# Altium footprint library PTN Connectors Footprint.PcbLib: 13 footprints
Each footprint in its own frame and in the unit in brackets; x right, y up, seen from the top. Pads: shape width x height; smd on the part's side, far side on the other; paste and mask are expansions set on the pad; w line width, h text height; cw(c..) or ccw(c..) is an arc to the next point about the centre after c.
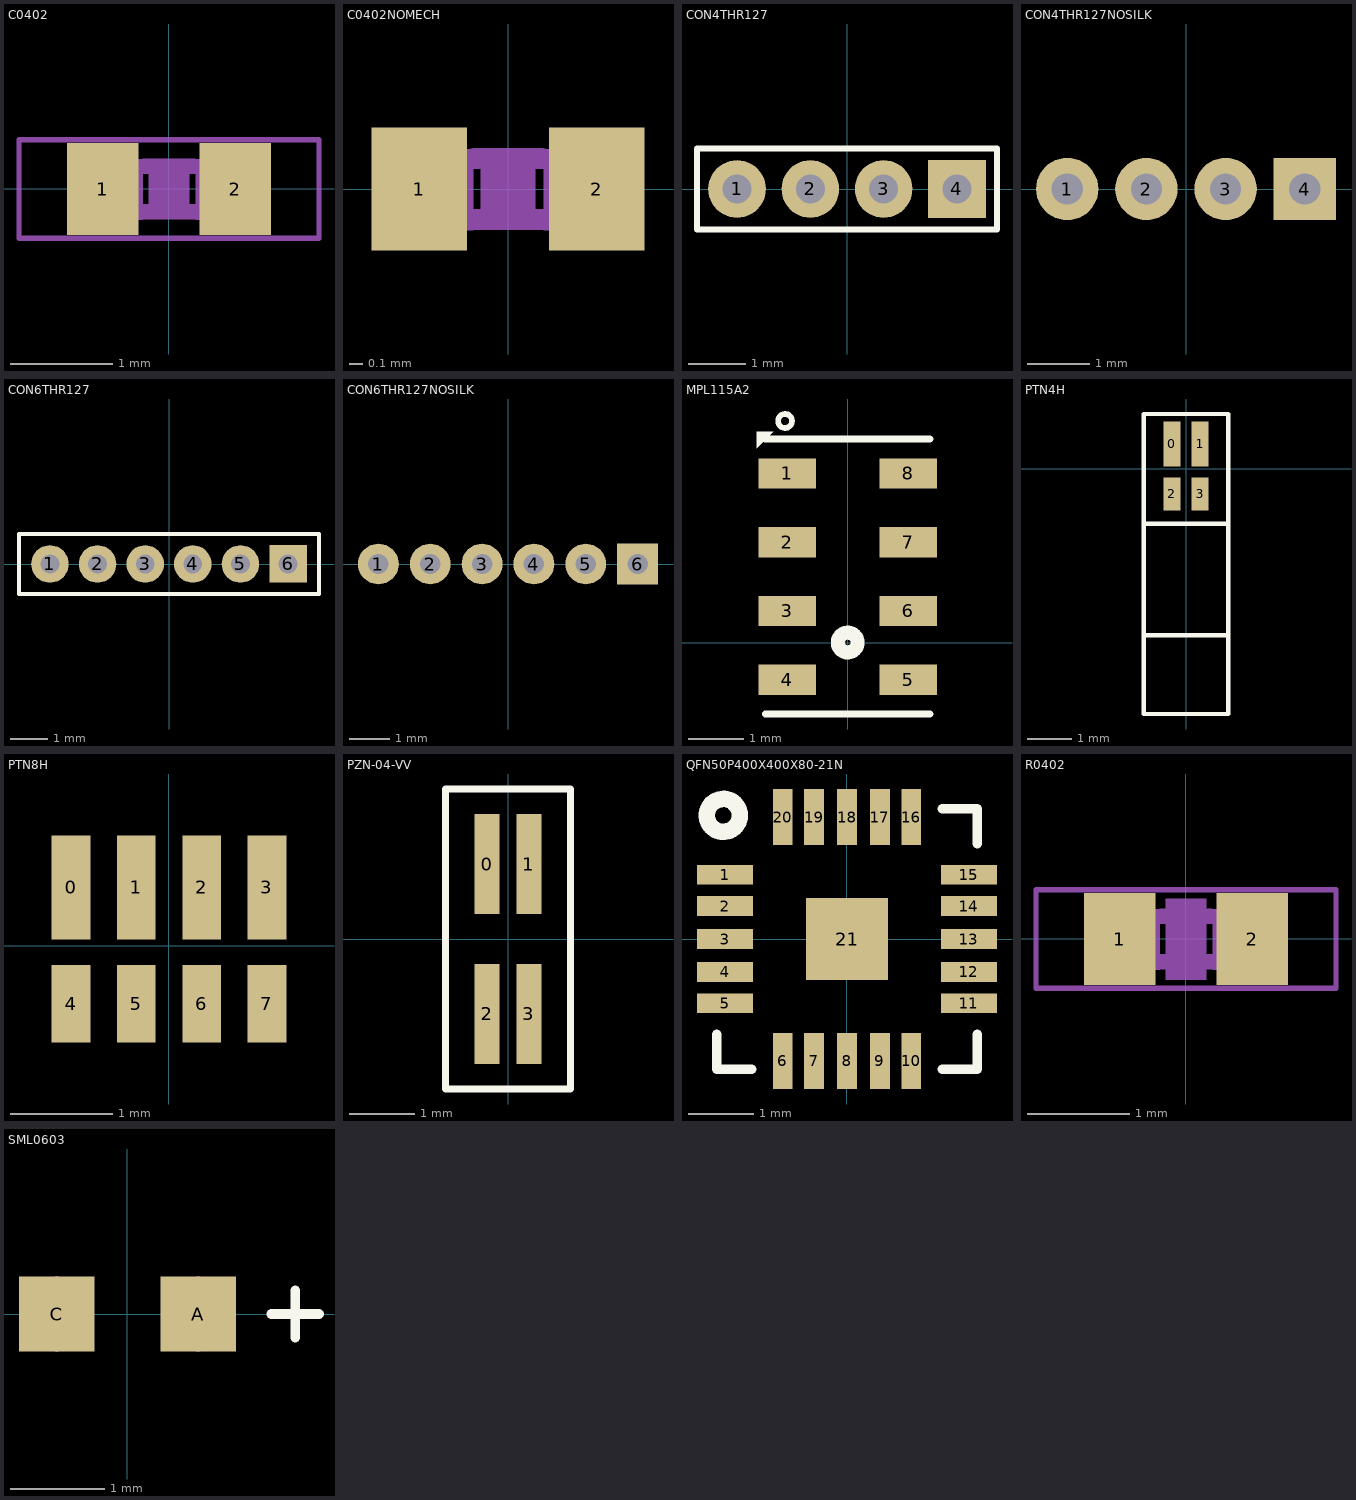
[diagram p0: the footprints below, top view; thin cyan lines are the x and y axes]

## C0402 [mm]
pads (2):
  rect 0.7x0.9 smd: 1(-0.65,0) 2(0.65,0)
Mechanical 6:
  rectangle: -0.2,-0.3 0.2,0.3
Mechanical 16:
  rectangle: 0.259,-0.305 0.559,0.295
  rectangle: -0.554,-0.305 -0.254,0.295
  lines w0.051: -1.473,-0.483 -1.473,0.483 1.473,0.483 1.473,-0.483 -1.473,-0.483
  lines w0.152: -0.245,-0.224 0.245,-0.224 ; -0.245,0.224 0.245,0.224

## C0402NOMECH [mm]
pads (2):
  rect 0.7x0.9 smd: 1(-0.65,0) 2(0.65,0)
Mechanical 6:
  rectangle: -0.2,-0.3 0.2,0.3
Mechanical 16:
  rectangle: -0.554,-0.305 -0.254,0.295
  rectangle: 0.259,-0.305 0.559,0.295
  lines w0.152: -0.245,-0.224 0.245,-0.224 ; -0.245,0.224 0.245,0.224

## CON4THR127 [mm] "Connector, Through Hole, 1.27mm - Metric Units"
pads (4):
  round 1 hole 0.5: 1(-1.905,0) 2(-0.635,0) 3(0.635,0)
  rect 1x1 hole 0.5: 4(1.905,0)
Top Overlay:
  lines w0.1: -2.6,-0.7 -2.6,0.7 -1.255,0.7 1.095,0.7 2.6,0.7 2.6,0.08 2.6,-0.28 2.6,-0.7 -2.6,-0.7

## CON4THR127NOSILK [mm] "Connector, Through Hole, 1.27mm - Metric Units"
pads (4):
  round 1 hole 0.5: 1(-1.905,0) 2(-0.635,0) 3(0.635,0)
  rect 1x1 hole 0.5: 4(1.905,0)

## CON6THR127 [mm] "Connector, Through Hole, 1.27mm - Metric Units"
pads (6):
  round 1 hole 0.5: 1(-3.175,0) 2(-1.905,0) 3(-0.635,0) 4(0.635,0) 5(1.905,0)
  rect 1x1 hole 0.5: 6(3.175,0)
Top Overlay:
  lines w0.1: -4,-0.8 4,-0.8 4,0.8 -4,0.8 -4,-0.8

## CON6THR127NOSILK [mm] "Connector, Through Hole, 1.27mm - Metric Units"
pads (6):
  round 1 hole 0.5: 1(-3.175,0) 2(-1.905,0) 3(-0.635,0) 4(0.635,0) 5(1.905,0)
  rect 1x1 hole 0.5: 6(3.175,0)

## MPL115A2 [mm]
pads (8):
  rect 1.05x0.55 smd: 1(-1.1,3.075) 2(-1.1,1.825) 3(-1.1,0.575) 4(-1.1,-0.675) 5(1.1,-0.675) 6(1.1,0.575) 7(1.1,1.825) 8(1.1,3.075)
Top Overlay:
  circle w0.102: c-1.14,4.03 r0.127
  circle w0.254: c0,0 r0.18
  region: -1.351,3.833 -1.651,3.533 -1.651,3.833
  lines w0.127: -1.5,-1.3 1.5,-1.3 ; -1.5,3.7 1.5,3.7

## PTN4H [mm] "Omnetics Connector, PZN-04-AA - Metric Units"
pads (4):
  rect 0.38x1.02 smd: 0(-0.32,0.57) 1(0.32,0.57)
  rect 0.38x0.76 smd: 2(-0.32,-0.57) 3(0.32,-0.57)
Top Overlay:
  lines w0.1: -0.96,-3.79 0.96,-3.79 ; 0.94,1.25 -0.02,1.25 -0.96,1.25 -0.96,-1.25 ; 0.96,1.25 0.96,-1.25 ; -0.96,-1.25 0.96,-1.25 ; -0.96,-1.25 -0.96,-5.58 0.96,-5.58 0.96,-1.25

## PTN8H [mm] "Omnetics Connector, PZN-08-AA - Metric Units"
pads (8):
  rect 0.38x1.02 smd: 0(-0.96,0.57) 1(-0.32,0.57) 2(0.32,0.57) 3(0.96,0.57)
  rect 0.38x0.76 smd: 4(-0.96,-0.57) 5(-0.32,-0.57) 6(0.32,-0.57) 7(0.96,-0.57)

## PZN-04-VV [mil] "Omnetics Connector, PZN-04-VV - Imperial Units"
pads (4):
  rect 15x60 smd: 0(-12.5,45) 1(12.5,45) 2(-12.5,-45) 3(12.5,-45)
Top Overlay:
  lines w4: -37.5,-90 37.5,-90 37.5,90 -37.5,90 -37.5,-90

## QFN50P400X400X80-21N [mil]
pads (21):
  rect 34x12 smd mask+4: 1(-74,39) 2(-74,20) 3(-74,0) 4(-74,-20) 5(-74,-39) 11(74,-39) 12(74,-20) 13(74,0) 14(74,20) 15(74,39)
  rect 12x34 smd mask+4: 6(-39,-74) 7(-20,-74) 8(0,-74) 9(20,-74) 10(39,-74) 16(39,74) 17(20,74) 18(0,74) 19(-20,74) 20(-39,74)
  rect 50x50 smd: 21(0,0)
Top Overlay:
  circle w10: c-75,75 r10
  lines w6: -79,-58 -79,-79 -58,-79 ; 58,-79 79,-79 79,-58 ; 58,79 79,79 79,58

## R0402 [mm]
pads (2):
  rect 0.7x0.9 smd: 1(-0.65,0) 2(0.65,0)
Mechanical 6:
  rectangle: -0.201,-0.4 0.199,0.4
Mechanical 16:
  rectangle: 0.258,-0.305 0.558,0.295
  rectangle: -0.555,-0.305 -0.255,0.295
  lines w0.051: -1.473,-0.483 -1.473,0.483 1.473,0.483 1.473,-0.483 -1.473,-0.483
  lines w0.152: -0.245,-0.224 0.245,-0.224 ; -0.245,0.224 0.245,0.224

## SML0603 [mil]
pads (2):
  rect 31.5x31.5 smd: A(29.53,0) C(-29.53,0)
Top Overlay:
  lines w4: 60,0 80,0 ; 70,-10 70,10
Mechanical 16:
  lines w4: -29.53,-13.78 -29.53,13.78 ; -17.72,-11.81 -17.72,11.81 ; 17.72,-11.81 17.72,11.81 ; 29.53,-13.78 29.53,13.78